# EAGLE library part CA3240AEZ (library Intersil_By_element14_Batch_1)
operational amplifiers
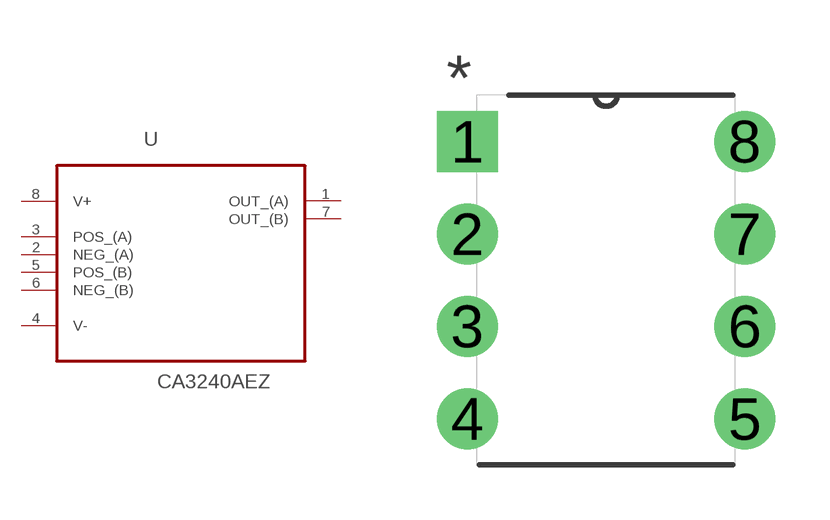
[diagram p12: symbol with the pads of DIP254P762X533-8; footprint DIP254P762X533-8]

Designator prefix U

## CA3240AEZ (MPN: CA3240AEZ; OC_FARNELL: 9663525; OC_NEWARK: 57K3025; PACKAGE: DIP; SUPPLIER: INTERSIL)  [DIP254P762X533-8]
1  OUT_(A)  out
2  NEG_(A)  in
3  POS_(A)  in
4  V-  pwr
5  POS_(B)  in
6  NEG_(B)  in
7  OUT_(B)  out
8  V+  pwr

## Footprint DIP254P762X533-8 (pad centres in mm)
drill 1.118 square: 1 -7.62,7.62
drill 1.118: 2 -7.62,5.08; 3 -7.62,2.54; 4 -7.62,0; 5 0,0; 6 0,2.54; 7 0,5.08; 8 0,7.62